# Altium footprint library pinhead.PCBLIB: 100 footprints (part 7 of 7)
Each footprint in its own frame and in the unit in brackets; x right, y up, seen from the top. Pads: shape width x height; smd on the part's side, far side on the other; paste and mask are expansions set on the pad; w line width, h text height; cw(c..) or ccw(c..) is an arc to the next point about the centre after c.
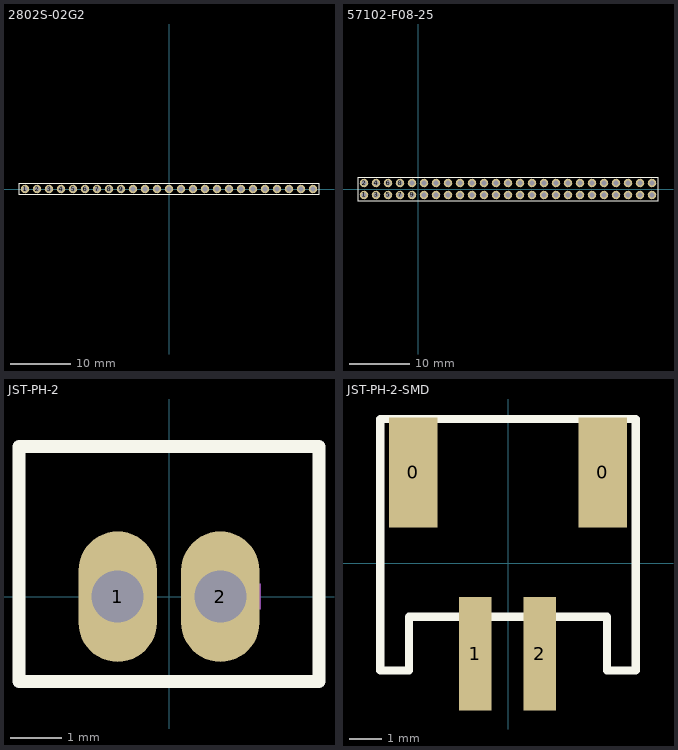
[diagram p6: the footprints below, top view; thin cyan lines are the x and y axes]

## 2802S-02G2 [mil]
pads (25):
  round 56 hole 31.5: 1(-944.88,0) 2(-866.14,0) 3(-787.4,0) 4(-708.66,0) 5(-629.92,0) 6(-551.18,0) 7(-472.44,0) 8(-393.7,0) 9(-314.96,0) 10(-236.22,0) 11(-157.48,0) 12(-78.74,0) 13(0,0) 14(78.74,0) 15(157.48,0) 16(236.22,0) 17(314.96,0) 18(393.7,0) 19(472.44,0) 20(551.18,0) 21(629.92,0) 22(708.66,0) 23(787.4,0) 24(866.14,0) 25(944.88,0)
Top Overlay:
  lines w8: -984.25,-39.37 984.25,-39.37 984.25,39.37 -984.25,39.37 -984.25,-39.37

## 57102-F08-25 [mil]
pads (50):
  round 56 hole 31.5: 1(-354.33,-39.37) 2(-354.33,39.37) 3(-275.59,-39.37) 4(-275.59,39.37) 5(-196.85,-39.37) 6(-196.85,39.37) 7(-118.11,-39.37) 8(-118.11,39.37) 9(-39.37,-39.37) 10(-39.37,39.37) 11(39.37,-39.37) 12(39.37,39.37) 13(118.11,-39.37) 14(118.11,39.37) 15(196.85,-39.37) 16(196.85,39.37) 17(275.59,-39.37) 18(275.59,39.37) 19(354.33,-39.37) 20(354.33,39.37) 21(433.07,-39.37) 22(433.07,39.37) 23(511.81,-39.37) 24(511.81,39.37) 25(590.55,-39.37) 26(590.55,39.37) 27(669.29,-39.37) 28(669.29,39.37) 29(748.03,-39.37) 30(748.03,39.37) 31(826.77,-39.37) 32(826.77,39.37) 33(905.51,-39.37) 34(905.51,39.37) 35(984.25,-39.37) 36(984.25,39.37) 37(1062.99,-39.37) 38(1062.99,39.37) 39(1141.73,-39.37) 40(1141.73,39.37) 41(1220.47,-39.37) 42(1220.47,39.37) 43(1299.21,-39.37) 44(1299.21,39.37) 45(1377.95,-39.37) 46(1377.95,39.37) 47(1456.69,-39.37) 48(1456.69,39.37) 49(1535.43,-39.37) 50(1535.43,39.37)
Top Overlay:
  lines w8: -393.7,-78.74 1574.8,-78.74 1574.8,78.74 -393.7,78.74 -393.7,-78.74

## JST-PH-2 [mil]
pads (2):
  oval 60x100 hole 40: 1(-39.37,0) 2(39.37,0)
Top Overlay:
  lines w10: -115,-65 115,-65 115,0 115,115 -115,115 -115,0 -115,-65
Mechanical 16:
  rectangle: 50.63,-10 70.63,10
  rectangle: -49.37,-10 -29.37,10
3D body: height 236.22, standoff -75, extent -118.1,-63.58 118.11,113.59

## JST-PH-2-SMD [mm]
pads (4):
  rect 1.5x3.4 smd: 0(-2.921,2.794) 0(2.921,2.794)
  rect 1x3.5 smd: 1(-1.016,-2.794) 2(0.984,-2.794)
Top Overlay:
  lines w0.254: -3.937,-3.302 -3.048,-3.302 -3.048,-1.651 3.048,-1.651 3.048,-3.302 3.937,-3.302 3.937,-1.524 3.937,4.445 -3.937,4.445 -3.937,-1.524 -3.937,-3.302
3D body: height 4.8, standoff 0, extent -3.95,-4.155 3.95,4.445